# EAGLE library part AD7193 (library Taylor)
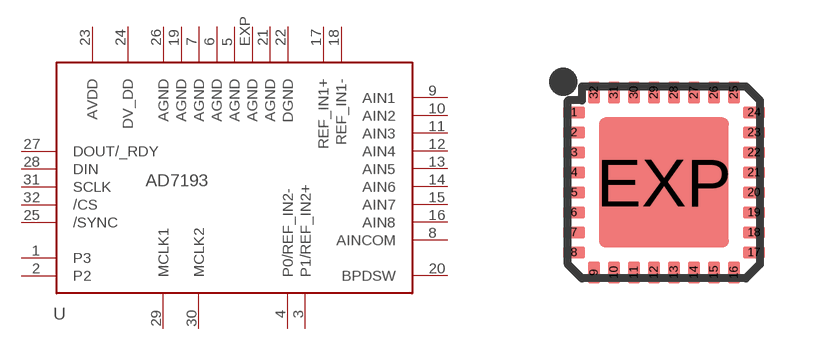
[diagram p19: symbol with the pads of LFCSP32; footprint LFCSP32]

Designator prefix -

## AD7193  [LFCSP32]
1  P3
2  P2
3  P1/REF_IN2+
4  P0/REF_IN2-
5  AGND
6  AGND
7  AGND
8  AINCOM
9  AIN1
10  AIN2
11  AIN3
12  AIN4
13  AIN5
14  AIN6
15  AIN7
16  AIN8
17  REF_IN1+
18  REF_IN1-
19  AGND
20  BPDSW
21  AGND
22  DGND
23  AVDD
24  DV_DD
25  /SYNC
26  AGND
27  DOUT/_RDY
28  DIN
29  MCLK1
30  MCLK2
31  SCLK
32  /CS
EXP  AGND

## Footprint LFCSP32 (pad centres in mm)
32-Lead Frame Chip Scale Package [LFCSP_VQ] 5 mm × 5 mm Very Thin Quad (CP-32-3 COMPLIANT TO JEDEC STANDARDS MO-220-VHHD-2 Source: http://www.analog.com/UploadedFiles/Data_Sheets/762180021AD7142_42_1_prd.pdf
smd 0.55 x 0.3: 1 -2.25,1.75; 2 -2.25,1.25; 3 -2.25,0.75; 4 -2.25,0.25; 5 -2.25,-0.25; 6 -2.25,-0.75; 7 -2.25,-1.25; 8 -2.25,-1.75; 17 2.25,-1.75; 18 2.25,-1.25; 19 2.25,-0.75; 20 2.25,-0.25; 21 2.25,0.25; 22 2.25,0.75; 23 2.25,1.25; 24 2.25,1.75
smd 0.3 x 0.55: 9 -1.75,-2.25; 10 -1.25,-2.25; 11 -0.75,-2.25; 12 -0.25,-2.25; 13 0.25,-2.25; 14 0.75,-2.25; 15 1.25,-2.25; 16 1.75,-2.25; 25 1.75,2.25; 26 1.25,2.25; 27 0.75,2.25; 28 0.25,2.25; 29 -0.25,2.25; 30 -0.75,2.25; 31 -1.25,2.25; 32 -1.75,2.25
smd 3.25 x 3.25: EXP 0,0